# Altium footprint library Pcblib_NTC temperature sensor.PcbLib: 2 footprints
Each footprint in its own frame and in the unit in brackets; x right, y up, seen from the top. Pads: shape width x height; smd on the part's side, far side on the other; paste and mask are expansions set on the pad; w line width, h text height; cw(c..) or ccw(c..) is an arc to the next point about the centre after c.
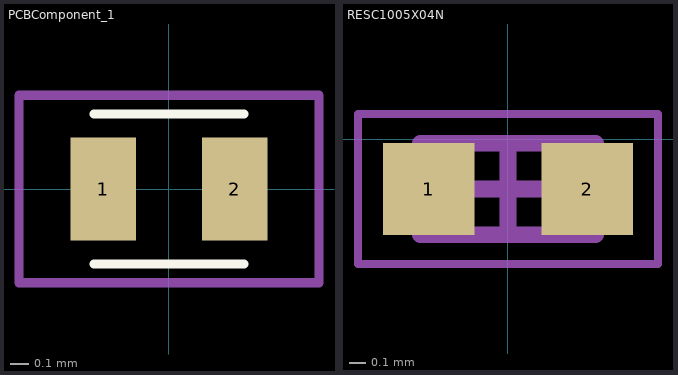
[diagram p0: the footprints below, top view; thin cyan lines are the x and y axes]

## PCBComponent_1 [mm]
pads (2):
  rect 0.35x0.55 smd: 1(-0.35,0) 2(0.35,0)
Top Overlay:
  lines w0.05: -0.4,-0.4 0.4,-0.4 ; -0.4,0.4 0.4,0.4
Mechanical29:
  lines w0.05: -0.8,-0.5 0.8,-0.5 0.8,0.5 -0.8,0.5 -0.8,-0.5
3D body "NCU15XH103D6SRC.STEP": height 0.5, standoff 0, extent -0.5,-0.3 0.5,0.25

## RESC1005X04N [mm] "Chip Resistor, 2-Leads, Body 1.00x0.50mm, IPC Medium Density"
height 0.4
pads (2):
  rect 0.55x0.55 smd: 1(-0.475,-0.3) 2(0.475,-0.3)
Mechanical 13:
  lines w0.1: -0.525,-0.575 0.525,-0.575 0.525,-0.025 -0.525,-0.025 -0.525,-0.575
Mechanical 15:
  lines w0.05: -0.9,-0.75 0.9,-0.75 0.9,0.15 -0.9,0.15 -0.9,-0.75
  lines w0.1: -0.275,-0.3 0.275,-0.3 ; 0,-0.575 0,-0.025
3D body "RESC1005X04N.step": height 0.4, standoff 0, extent -0.525,-0.575 0.525,-0.025